# EAGLE library part LED_MATRIX_8X8_A (library FaBo-LED)
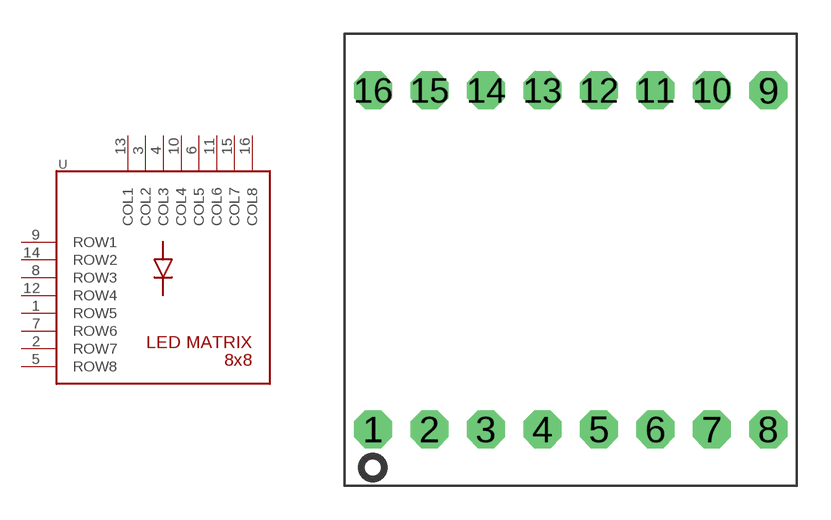
[diagram p0: symbol with the pads of LED_MATRIX_8X8_20_A; footprint LED_MATRIX_8X8_20_A]

Designator prefix U

## LED_MATRIX_8X8_A  [LED_MATRIX_8X8_20_A]
1  ROW5
2  ROW7
3  COL2
4  COL3
5  ROW8
6  COL5
7  ROW6
8  ROW3
9  ROW1
10  COL4
11  COL6
12  ROW4
13  COL1
14  ROW2
15  COL7
16  COL8

## Footprint LED_MATRIX_8X8_20_A (pad centres in mm)
drill 0.9 pad 1.676 octagon: 1 -8.75,-7.5; 2 -6.25,-7.5; 3 -3.75,-7.5; 4 -1.25,-7.5; 5 1.25,-7.5; 6 3.75,-7.5; 7 6.25,-7.5; 8 8.75,-7.5; 9 8.75,7.5; 10 6.25,7.5; 11 3.75,7.5; 12 1.25,7.5; 13 -1.25,7.5; 14 -3.75,7.5; 15 -6.25,7.5; 16 -8.75,7.5